# Altium footprint library PD4859J5050S2HF.PcbLib: 1 footprints
Each footprint in its own frame and in the unit in brackets; x right, y up, seen from the top. Pads: shape width x height; smd on the part's side, far side on the other; paste and mask are expansions set on the pad; w line width, h text height; cw(c..) or ccw(c..) is an arc to the next point about the centre after c.
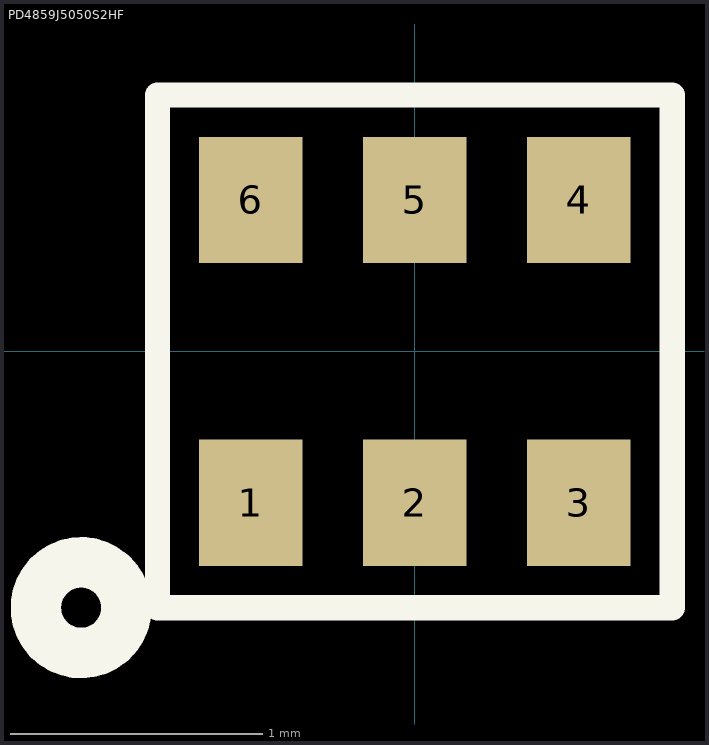
[diagram p0: the footprint, top view; thin cyan lines are the x and y axes]

## PD4859J5050S2HF [mm]
pads (6):
  rect 0.41x0.5 smd: 1(-0.65,-0.6) 2(0,-0.6) 3(0.65,-0.6) 4(0.65,0.6) 5(0,0.6) 6(-0.65,0.6)
Top Overlay:
  circle w0.2: c-1.323,-1.016 r0.18
  lines w0.1: -1.02,-1.016 -1.02,1.016 1.02,1.016 1.02,-1.016 -1.02,-1.016
3D body: height 0.5, standoff 0, extent -1.016,-0.635 1.016,0.635